# Altium schematic symbol library Teensy_3_and_LC_Series_Boards_v1.SchLib: 14 symbols
Pins are listed as number, name and electrical type; pins without a type are passive.

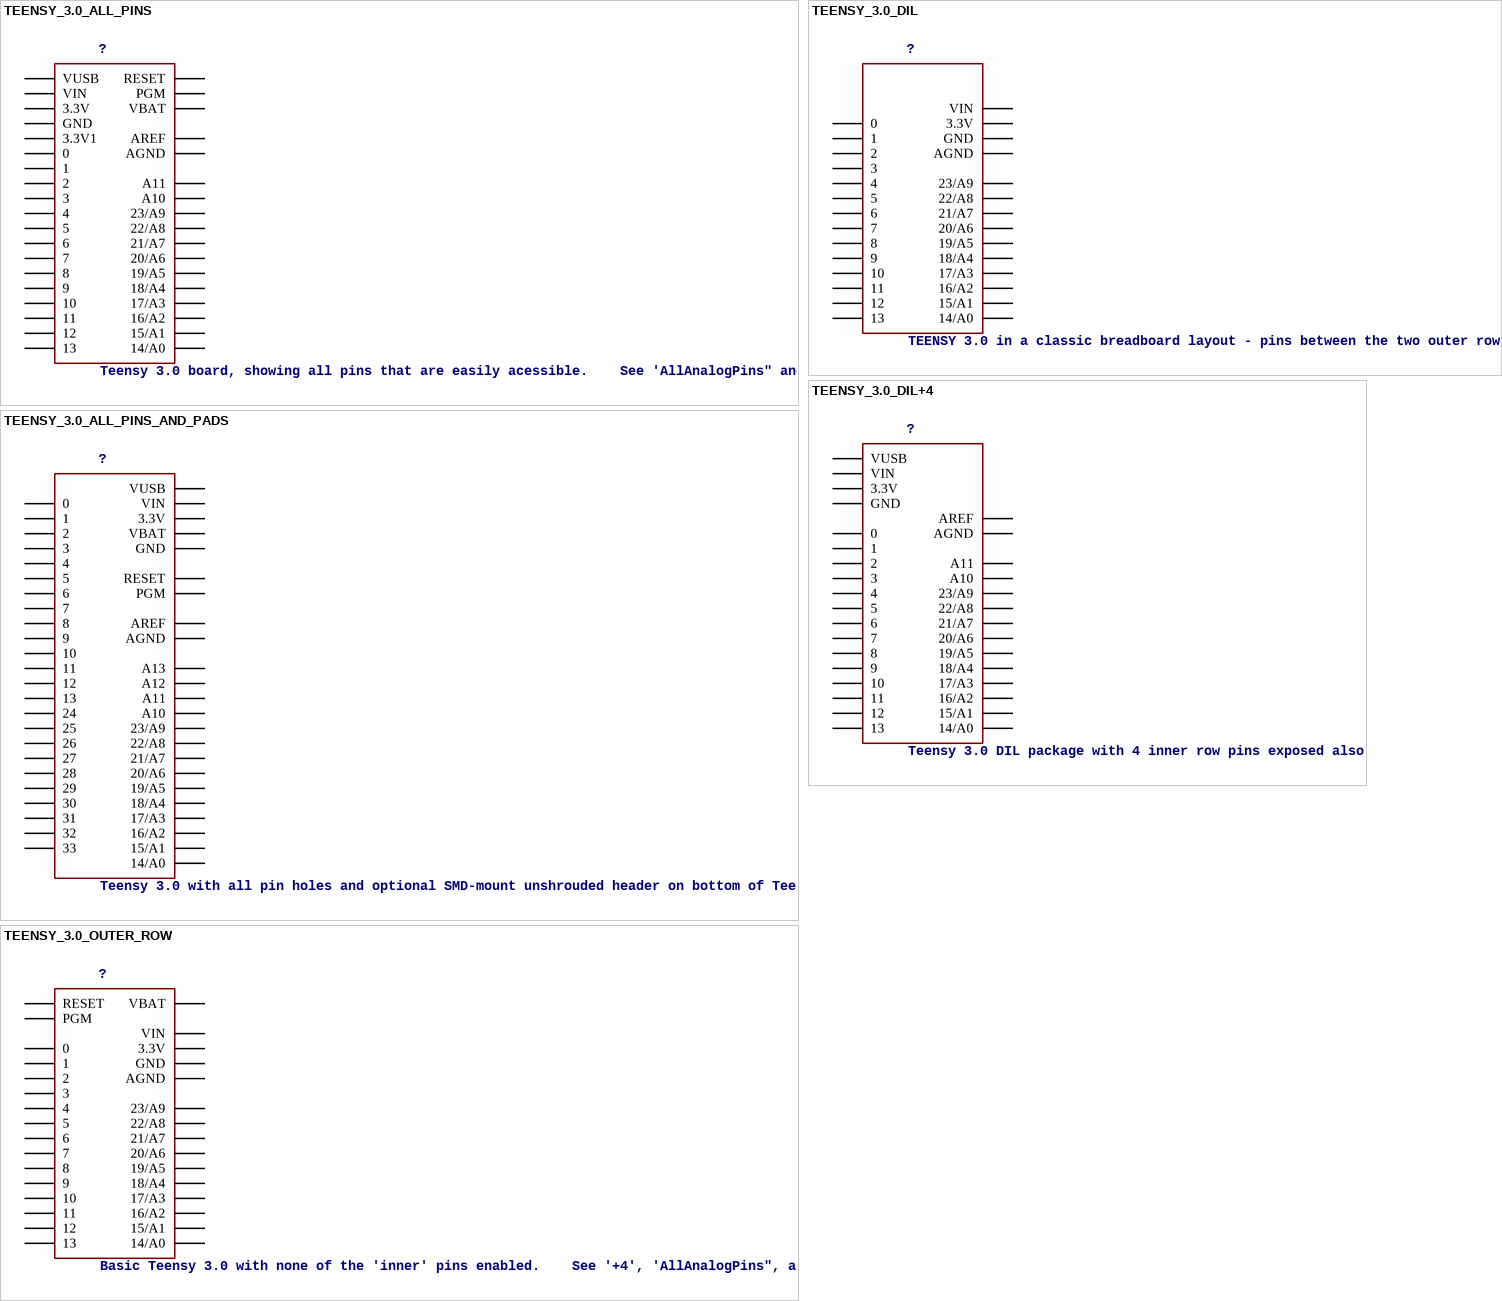
[diagram p0: symbols TEENSY_3.0_ALL_PINS to TEENSY_3.0_OUTER_ROW]

## TEENSY_3.0_ALL_PINS
designator ?, comment Teensy 3.0 board, showing all pins that are easily acessible.    See 'AllAnalogPins" and 'AllPins' packages for additional pin holes, as needed.   The 'Basic' package has fewer pins.
footprint TEENSY3-ALL_PINS
pins: 0, 1, 2, 3, 3.3V 3.3V1 3.3V (power), 3.3V 3.3V1 3.3V1 (power), 4, 5, 6, 7, 8, 9, 10, 11, 12, 13, 14/A0, 15/A1, 16/A2, 17/A3, 18/A4, 19/A5, 20/A6, 21/A7, 22/A8, 23/A9, A10, A11, AGND (power), AREF (power), GND GND1 GND (power), PGM, RESET/DAC RESET, VBAT (power), VIN (power), VUSB (power)

## TEENSY_3.0_ALL_PINS_AND_PADS
designator ?, comment Teensy 3.0 with all pin holes and optional SMD-mount unshrouded header on bottom of Teensy 3.0.    For more basic versions, see 'Basic', '+4' and 'AllAnalogPins'.   Requires the installation of a un-shrouded SMD header on the underside of the Teensy 3.0
footprint TEENSY3_ALL_PINS_&_PADS
pins: 0, 1, 2, 3, 3.3V 3.3V1 3.3V2 3.3V (power), 4, 5, 6, 7, 8, 9, 10, 11, 12, 13, 14/A0, 15/A1, 16/A2, 17/A3, 18/A4, 19/A5, 20/A6, 21/A7, 22/A8, 23/A9, 24, 25, 26, 27, 28, 29, 30, 31, 32, 33, A10, A11, A12, A13, AGND (power), AREF (power), GND GND1 GND2 GND (power), PGM, RESET/DAC RESET, VBAT (power), VIN (power), VUSB (power)

## TEENSY_3.0_DIL
designator ?, comment TEENSY 3.0 in a classic breadboard layout - pins between the two outer rows.
footprint TEENSY3-DIL
pins: 0, 1, 2, 3, 3.3V (power), 4, 5, 6, 7, 8, 9, 10, 11, 12, 13, 14/A0, 15/A1, 16/A2, 17/A3, 18/A4, 19/A5, 20/A6, 21/A7, 22/A8, 23/A9, AGND (power), GND (power), VIN (power)

## TEENSY_3.0_DIL+4
designator ?, comment Teensy 3.0 DIL package with 4 inner row pins exposed also.
footprint TEENSY3-DIL+4
pins: 0, 1, 2, 3, 3.3V (power), 4, 5, 6, 7, 8, 9, 10, 11, 12, 13, 14/A0, 15/A1, 16/A2, 17/A3, 18/A4, 19/A5, 20/A6, 21/A7, 22/A8, 23/A9, A10, A11, AGND (power), AREF (power), GND (power), VIN (power), VUSB (power)

## TEENSY_3.0_OUTER_ROW
designator ?, comment Basic Teensy 3.0 with none of the 'inner' pins enabled.    See '+4', 'AllAnalogPins", and 'AllPins' packages for additional pin holes, as needed.
footprint TEENSY3-OUTER_ROW
pins: 0, 1, 2, 3, 3.3V 3.3V1 3.3V (power), 4, 5, 6, 7, 8, 9, 10, 11, 12, 13, 14/A0, 15/A1, 16/A2, 17/A3, 18/A4, 19/A5, 20/A6, 21/A7, 22/A8, 23/A9, AGND (power), GND GND1 GND (power), PGM, RESET/DAC RESET, VBAT (power), VIN (power)

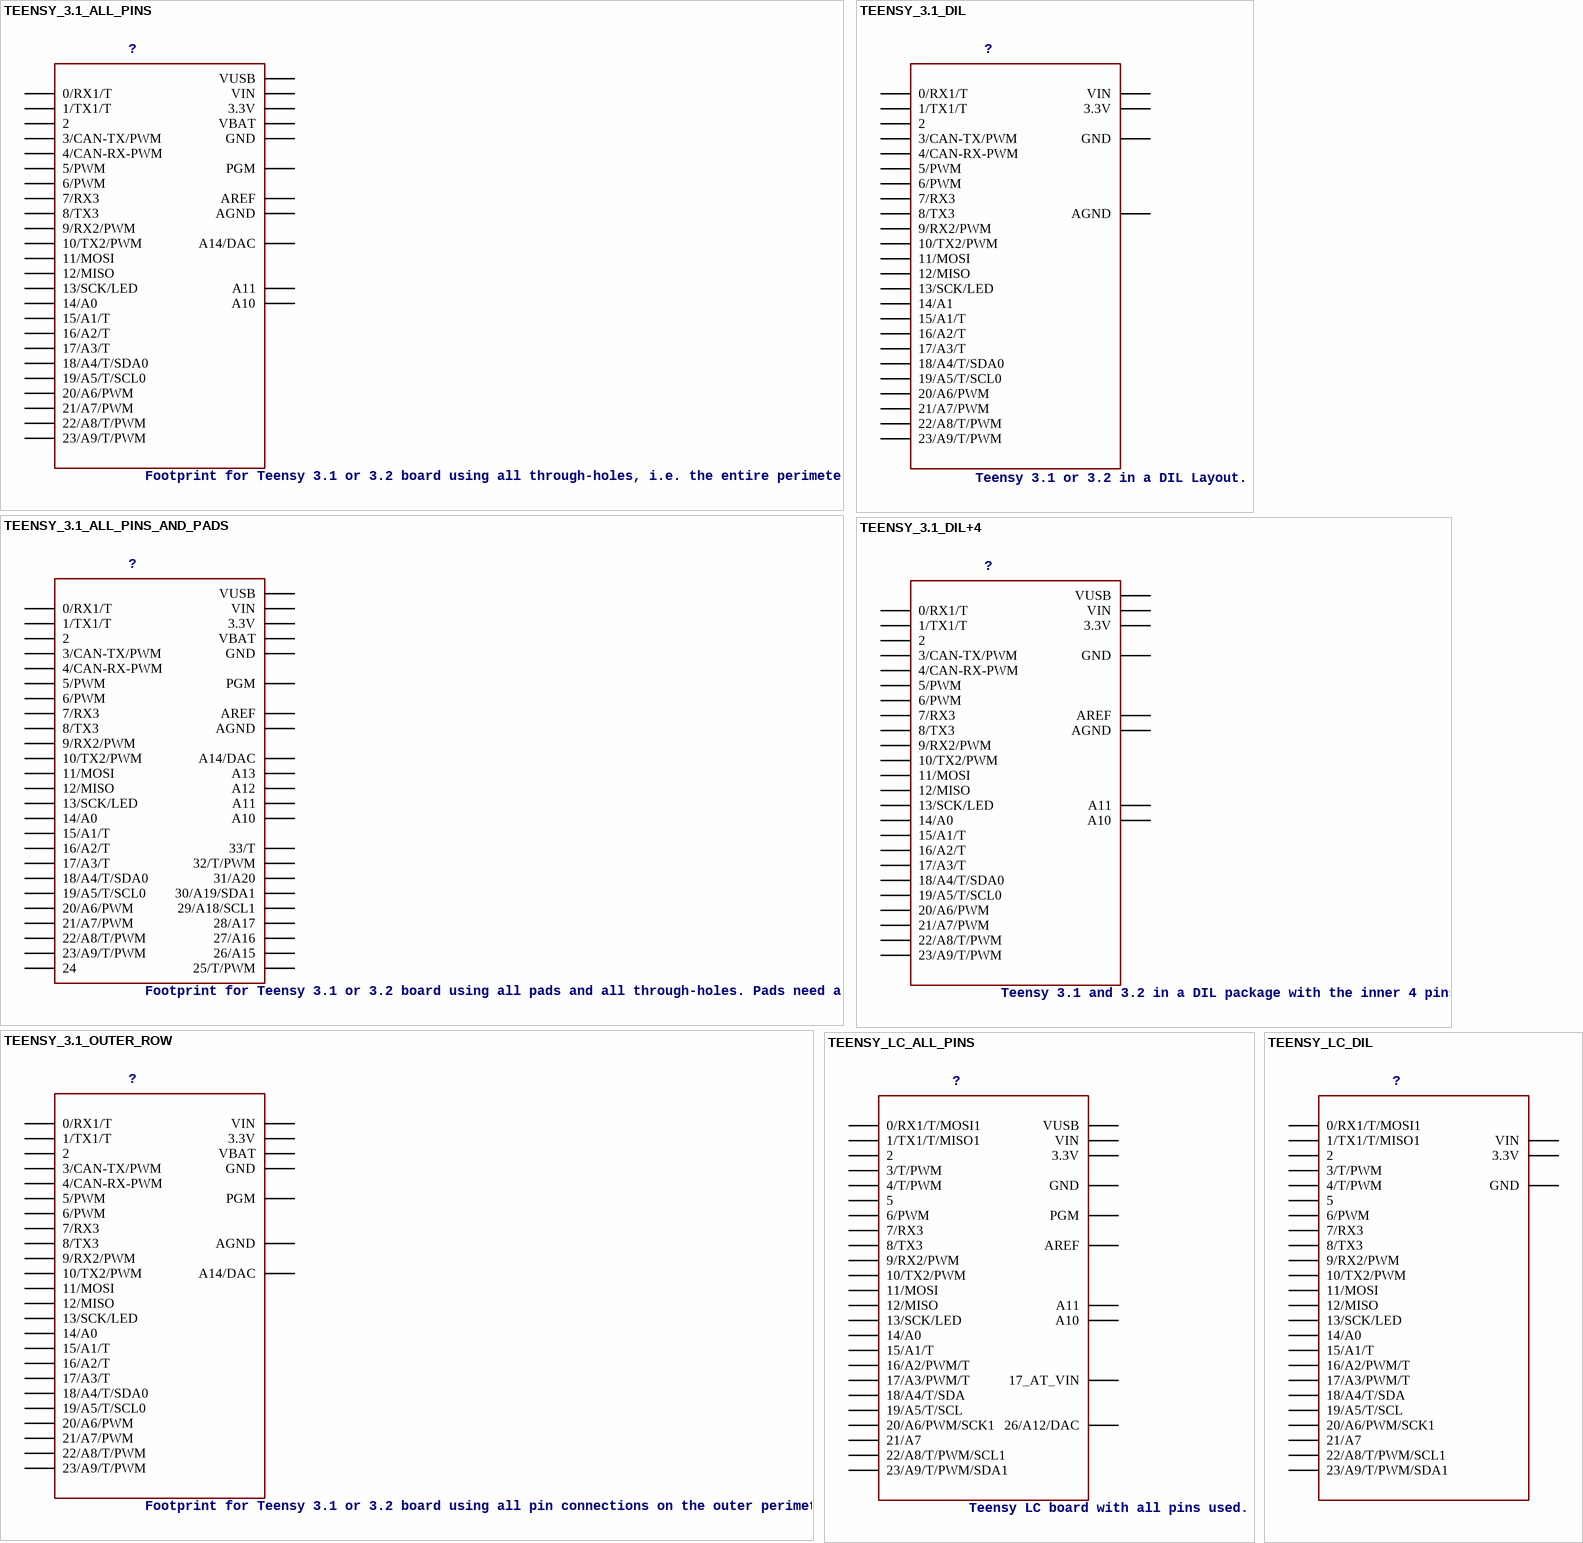
[diagram p1: symbols TEENSY_3.1_ALL_PINS to TEENSY_LC_DIL]

## TEENSY_3.1_ALL_PINS
designator ?, comment Footprint for Teensy 3.1 or 3.2 board using all through-holes, i.e. the entire perimeter plus the 4 through-holes inboard (A10,A11,AREF, VUSB)
footprint TEENSY3-ALL_PINS
pins: 0 0/RX1/T, 1 1/TX1/T, 2, 3 3/CAN-TX/PWM, 3.3V 3.3V1 3.3V (power), 4 4/CAN-RX-PWM, 5 5/PWM, 6 6/PWM, 7 7/RX3, 8 8/TX3, 9 9/RX2/PWM, 10 10/TX2/PWM, 11 11/MOSI, 12 12/MISO, 13 13/SCK/LED, 14/A0, 15/A1 15/A1/T, 16/A2 16/A2/T, 17/A3 17/A3/T, 18/A4 18/A4/T/SDA0, 19/A5 19/A5/T/SCL0, 20/A6 20/A6/PWM, 21/A7 21/A7/PWM, 22/A8 22/A8/T/PWM, 23/A9 23/A9/T/PWM, A10, A11, AGND (power), AREF (power), GND GND1 GND (power), PGM, RESET/DAC A14/DAC, VBAT (power), VIN (power), VUSB (power)

## TEENSY_3.1_ALL_PINS_AND_PADS
designator ?, comment Footprint for Teensy 3.1 or 3.2 board using all pads and all through-holes. Pads need a 2x7 0.1" SMD header.
footprint TEENSY3_ALL_PINS_&_PADS
pins: 0 0/RX1/T, 1 1/TX1/T, 2, 3 3/CAN-TX/PWM, 3.3V 3.3V1 3.3V2 3.3V (power), 4 4/CAN-RX-PWM, 5 5/PWM, 6 6/PWM, 7 7/RX3, 8 8/TX3, 9 9/RX2/PWM, 10 10/TX2/PWM, 11 11/MOSI, 12 12/MISO, 13 13/SCK/LED, 14/A0, 15/A1 15/A1/T, 16/A2 16/A2/T, 17/A3 17/A3/T, 18/A4 18/A4/T/SDA0, 19/A5 19/A5/T/SCL0, 20/A6 20/A6/PWM, 21/A7 21/A7/PWM, 22/A8 22/A8/T/PWM, 23/A9 23/A9/T/PWM, 24, 25 25/T/PWM, 26 26/A15, 27 27/A16, 28 28/A17, 29 29/A18/SCL1, 30 30/A19/SDA1, 31 31/A20, 32 32/T/PWM, 33 33/T, A10, A11, A12, A13, AGND (power), AREF (power), GND GND1 GND2 GND (power), PGM, RESET/DAC A14/DAC, VBAT (power), VIN (power), VUSB (power)

## TEENSY_3.1_DIL
designator ?, comment Teensy 3.1 or 3.2 in a DIL Layout.
footprint TEENSY3-DIL
pins: 0 0/RX1/T, 1 1/TX1/T, 2, 3 3/CAN-TX/PWM, 3.3V (power), 4 4/CAN-RX-PWM, 5 5/PWM, 6 6/PWM, 7 7/RX3, 8 8/TX3, 9 9/RX2/PWM, 10 10/TX2/PWM, 11 11/MOSI, 12 12/MISO, 13 13/SCK/LED, 14/A0 14/A1, 15/A1 15/A1/T, 16/A2 16/A2/T, 17/A3 17/A3/T, 18/A4 18/A4/T/SDA0, 19/A5 19/A5/T/SCL0, 20/A6 20/A6/PWM, 21/A7 21/A7/PWM, 22/A8 22/A8/T/PWM, 23/A9 23/A9/T/PWM, AGND (power), GND (power), VIN (power)

## TEENSY_3.1_DIL+4
designator ?, comment Teensy 3.1 and 3.2 in a DIL package with the inner 4 pins
footprint TEENSY3-DIL+4
pins: 0 0/RX1/T, 1 1/TX1/T, 2, 3 3/CAN-TX/PWM, 3.3V (power), 4 4/CAN-RX-PWM, 5 5/PWM, 6 6/PWM, 7 7/RX3, 8 8/TX3, 9 9/RX2/PWM, 10 10/TX2/PWM, 11 11/MOSI, 12 12/MISO, 13 13/SCK/LED, 14/A0, 15/A1 15/A1/T, 16/A2 16/A2/T, 17/A3 17/A3/T, 18/A4 18/A4/T/SDA0, 19/A5 19/A5/T/SCL0, 20/A6 20/A6/PWM, 21/A7 21/A7/PWM, 22/A8 22/A8/T/PWM, 23/A9 23/A9/T/PWM, A10, A11, AGND (power), AREF (power), GND (power), VIN (power), VUSB (power)

## TEENSY_3.1_OUTER_ROW
designator ?, comment Footprint for Teensy 3.1 or 3.2 board using all pin connections on the outer perimeter
footprint TEENSY3-OUTER_ROW
pins: 0 0/RX1/T, 1 1/TX1/T, 2, 3 3/CAN-TX/PWM, 3.3V 3.3V1 3.3V (power), 4 4/CAN-RX-PWM, 5 5/PWM, 6 6/PWM, 7 7/RX3, 8 8/TX3, 9 9/RX2/PWM, 10 10/TX2/PWM, 11 11/MOSI, 12 12/MISO, 13 13/SCK/LED, 14/A0, 15/A1 15/A1/T, 16/A2 16/A2/T, 17/A3 17/A3/T, 18/A4 18/A4/T/SDA0, 19/A5 19/A5/T/SCL0, 20/A6 20/A6/PWM, 21/A7 21/A7/PWM, 22/A8 22/A8/T/PWM, 23/A9 23/A9/T/PWM, AGND (power), GND GND1 GND (power), PGM, RESET/DAC A14/DAC, VBAT (power), VIN (power)

## TEENSY_LC_ALL_PINS
designator ?, comment Teensy LC board with all pins used.
footprint TEENSY3-ALL_PINS
pins: 0 0/RX1/T/MOSI1, 1 1/TX1/T/MISO1, 2, 3 3/T/PWM, 3.3V 3.3V1 3.3V (power), 4 4/T/PWM, 5, 6 6/PWM, 7 7/RX3, 8 8/TX3, 9 9/RX2/PWM, 10 10/TX2/PWM, 11 11/MOSI, 12 12/MISO, 13 13/SCK/LED, 14/A0, 15/A1 15/A1/T, 16/A2 16/A2/PWM/T, 17/A3 17/A3/PWM/T, 18/A4 18/A4/T/SDA, 19/A5 19/A5/T/SCL, 20/A6 20/A6/PWM/SCK1, 21/A7, 22/A8 22/A8/T/PWM/SCL1, 23/A9 23/A9/T/PWM/SDA1, A10, A11, AGND GND GND1 GND (power), AREF (power), PGM, RESET/DAC 26/A12/DAC (power), VBAT 17_AT_VIN, VIN (power), VUSB (power)

## TEENSY_LC_DIL
designator ?
footprint TEENSY3-DIL
pins: 0 0/RX1/T/MOSI1, 1 1/TX1/T/MISO1, 2, 3 3/T/PWM, 3.3V (power), 4 4/T/PWM, 5, 6 6/PWM, 7 7/RX3, 8 8/TX3, 9 9/RX2/PWM, 10 10/TX2/PWM, 11 11/MOSI, 12 12/MISO, 13 13/SCK/LED, 14/A0, 15/A1 15/A1/T, 16/A2 16/A2/PWM/T, 17/A3 17/A3/PWM/T, 18/A4 18/A4/T/SDA, 19/A5 19/A5/T/SCL, 20/A6 20/A6/PWM/SCK1, 21/A7, 22/A8 22/A8/T/PWM/SCL1, 23/A9 23/A9/T/PWM/SDA1, AGND GND GND (power), VIN (power)

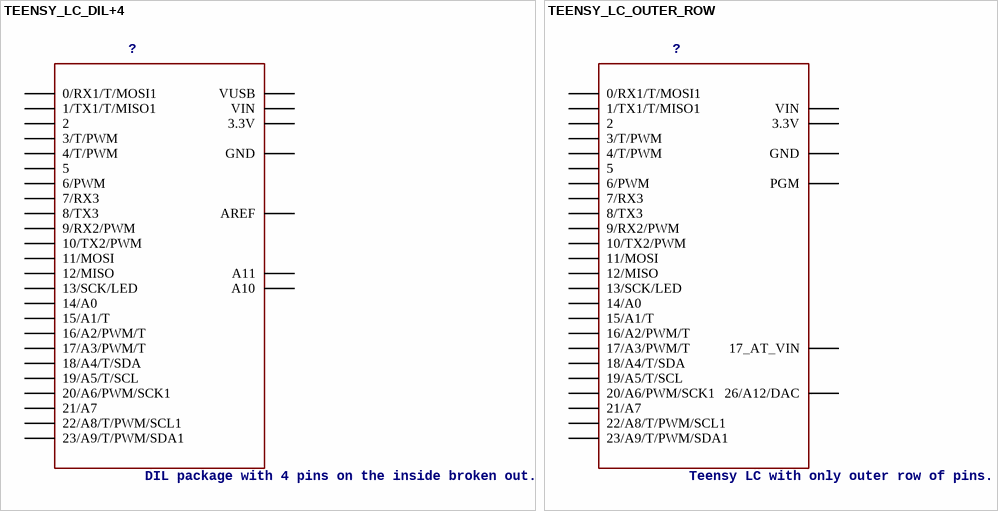
[diagram p2: symbols TEENSY_LC_DIL+4 to TEENSY_LC_OUTER_ROW]

## TEENSY_LC_DIL+4
designator ?, comment DIL package with 4 pins on the inside broken out.
footprint TEENSY3-DIL+4
pins: 0 0/RX1/T/MOSI1, 1 1/TX1/T/MISO1, 2, 3 3/T/PWM, 3.3V (power), 4 4/T/PWM, 5, 6 6/PWM, 7 7/RX3, 8 8/TX3, 9 9/RX2/PWM, 10 10/TX2/PWM, 11 11/MOSI, 12 12/MISO, 13 13/SCK/LED, 14/A0, 15/A1 15/A1/T, 16/A2 16/A2/PWM/T, 17/A3 17/A3/PWM/T, 18/A4 18/A4/T/SDA, 19/A5 19/A5/T/SCL, 20/A6 20/A6/PWM/SCK1, 21/A7, 22/A8 22/A8/T/PWM/SCL1, 23/A9 23/A9/T/PWM/SDA1, A10, A11, AGND GND GND (power), AREF (power), VIN (power), VUSB (power)

## TEENSY_LC_OUTER_ROW
designator ?, comment Teensy LC with only outer row of pins.
footprint TEENSY3-OUTER_ROW
pins: 0 0/RX1/T/MOSI1, 1 1/TX1/T/MISO1, 2, 3 3/T/PWM, 3.3V 3.3V1 3.3V (power), 4 4/T/PWM, 5, 6 6/PWM, 7 7/RX3, 8 8/TX3, 9 9/RX2/PWM, 10 10/TX2/PWM, 11 11/MOSI, 12 12/MISO, 13 13/SCK/LED, 14/A0, 15/A1 15/A1/T, 16/A2 16/A2/PWM/T, 17/A3 17/A3/PWM/T, 18/A4 18/A4/T/SDA, 19/A5 19/A5/T/SCL, 20/A6 20/A6/PWM/SCK1, 21/A7, 22/A8 22/A8/T/PWM/SCL1, 23/A9 23/A9/T/PWM/SDA1, AGND GND GND1 GND (power), PGM, RESET/DAC 26/A12/DAC (power), VBAT 17_AT_VIN, VIN (power)